# Altium integrated library Linear Technology Power Management Switching Regulator LT1074-LT8705.IntLib: 2252 symbols (part 67 of 148)
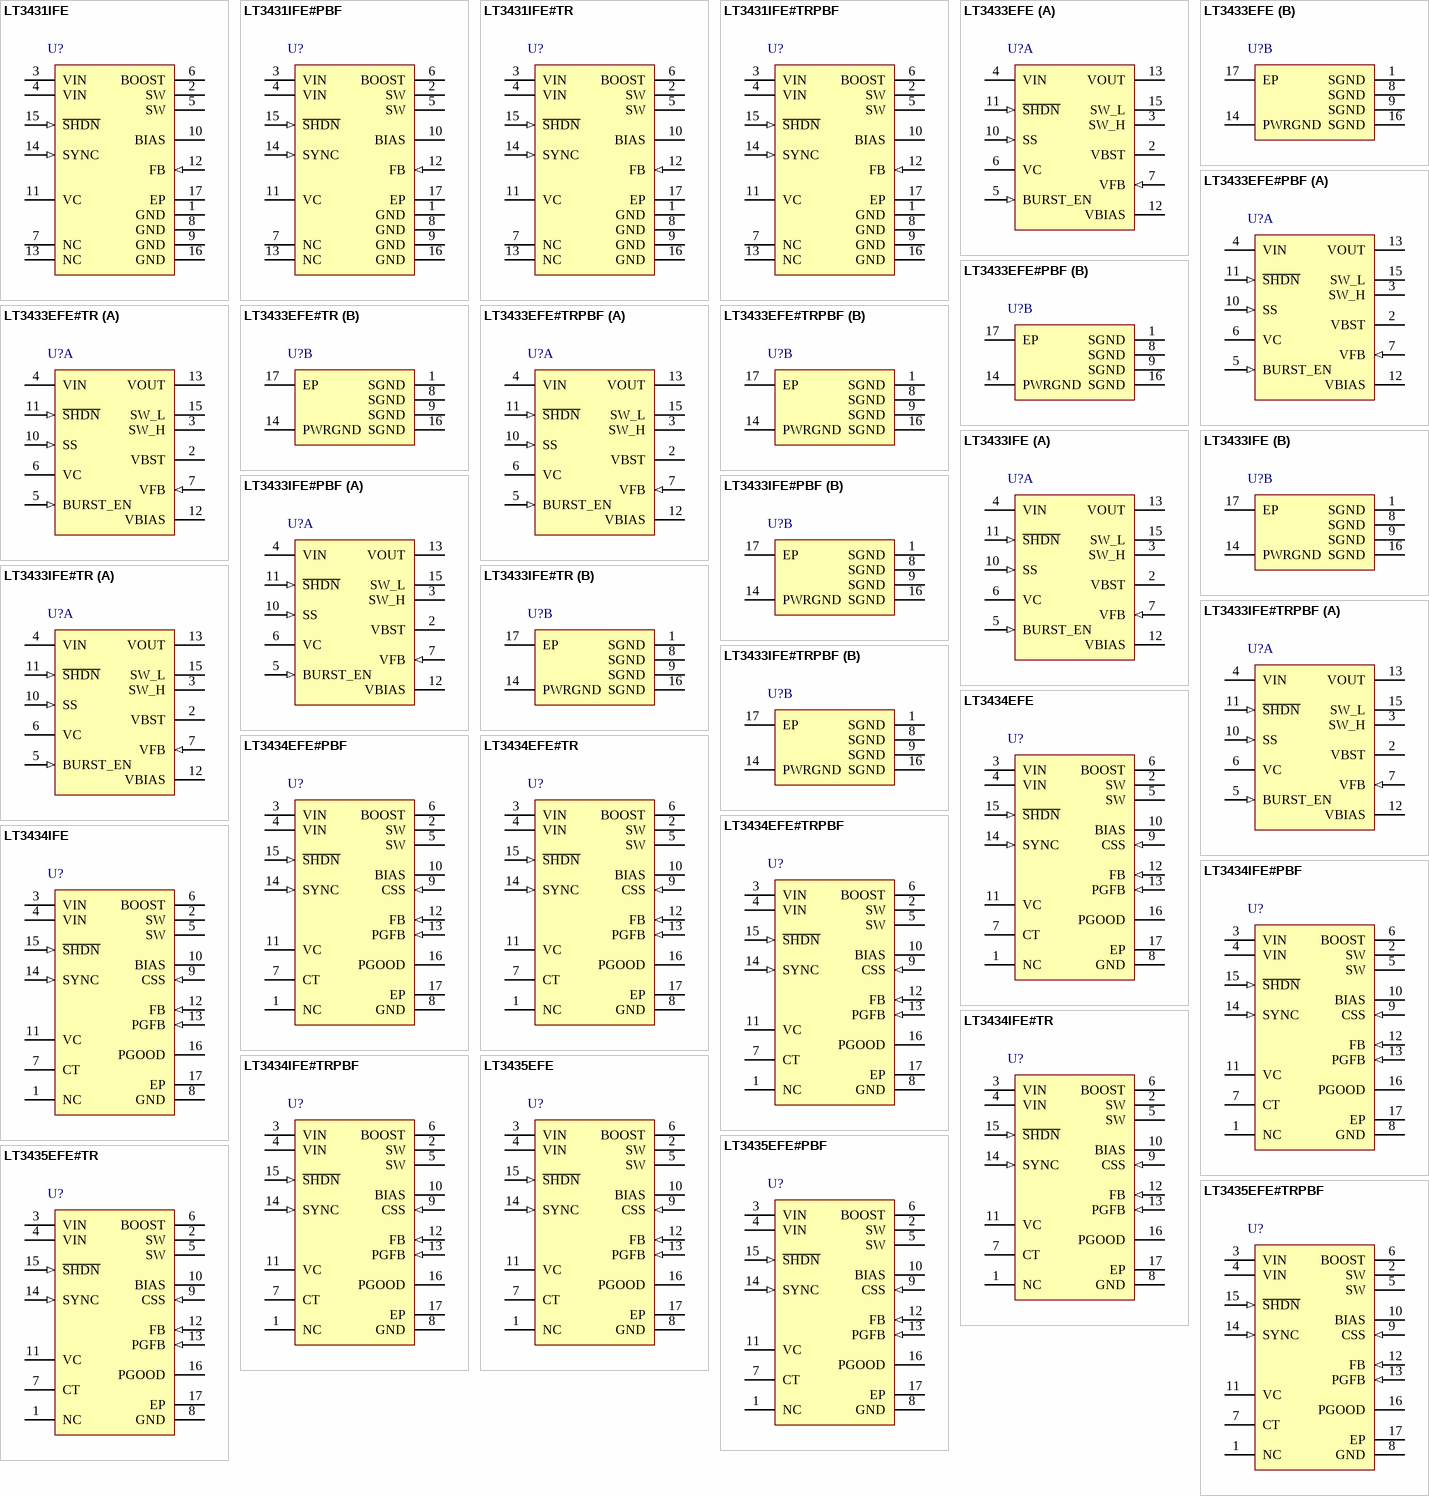
[diagram p137: symbols LT3431IFE to LT3435EFE#TRPBF]

## LT3431IFE#TRPBF
designator U?
High Voltage, 3 A, 500 kHz Step-Down Switching Regulator, 16-pin SOP (FE-16-EPV-BB), -40 to 125 degC, Pb-Free, Tape and Reel; Manufacturer: Linear Technology; PartNumber: LT3431IFE#TRPBF; Frequency Sync Range: 580kHz - 700kHz; Number of Outputs: 1; PackageVersion: Rev. J, 11/2012; PackageReference: FE-16; PackageDescription: 16-Pin Plastic TSSOP, Body 5 x 4.4 mm, Pitch 0.65 mm; Supplier 1: Digi-Key; Supplier Part Number 1: LT3431IFE#TRPBF-ND; Supplier 2: Newark; Supplier Part Number 2: 57M8108; Packing: Tape and Reel; RoHS: TRUE; Mounting Technology: Surface Mount; ComponentLink1Description: Manufacturer URL; ComponentLink1URL: http://www.linear.com/; ComponentLink2Description: Datasheet; ComponentLink2URL: http://cds.linear.com/docs/en/datasheet/3431fs.pdf; ComponentLink3Description: Package Specification; ComponentLink3URL: http://cds.linear.com/docs/en/packaging/05081663__J_FE16(BB).pdf
footprint LT-FE-16-EPV-BB_N (SOP, 16-Leads, Body 5.1x4.5mm, Pitch 0.65mm, Thermal Pad 3.58x2.94mm, IPC Medium Density)
footprint LT-FE-16-EPV-BB_L (SOP, 16-Leads, Body 5.1x4.5mm, Pitch 0.65mm, Thermal Pad 3.58x2.94mm, IPC High Density)
footprint LT-FE-16-EPV-BB_M (SOP, 16-Leads, Body 5.1x4.5mm, Pitch 0.65mm, Thermal Pad 3.58x2.94mm, IPC Low Density)
pins: 1 GND (power) "The GND pin connections act as the reference for the regulated output, so load regulation will suffer if the “ground?end of the load is not at the same voltage as the GND pins of the IC. This condition will occur w(See Datasheet)", 2 SW (power) "The switch pin is the emitter of the on-chip power NPN switch. This pin is driven up to the input pin voltage during switch on time. Inductor current drives the switch pin voltage negative during switch off time. Negative (See Datasheet)", 3 VIN (power) "This is the collector of the on-chip power NPN switch. VIN powers the internal control circuitry when a voltage on the BIAS pin is not present. High dI/dt edges occur on this pin during switch turn on and off. Keep the path (See Datasheet)", 4 VIN (power) "This is the collector of the on-chip power NPN switch. VIN powers the internal control circuitry when a voltage on the BIAS pin is not present. High dI/dt edges occur on this pin during switch turn on and off. Keep the path (See Datasheet)", 5 SW (power) "The switch pin is the emitter of the on-chip power NPN switch. This pin is driven up to the input pin voltage during switch on time. Inductor current drives the switch pin voltage negative during switch off time. Negative (See Datasheet)", 6 BOOST "The BOOST pin is used to provide a drive voltage, higher than the input voltage, to the internal bipolar NPN power switch. Without this added voltage, the typical switch voltage loss would be about 1.5V. The additional BOOST (See Datasheet)", 7 NC "No Connection.", 8 GND (power) "The GND pin connections act as the reference for the regulated output, so load regulation will suffer if the “ground?end of the load is not at the same voltage as the GND pins of the IC. This condition will occur w(See Datasheet)", 9 GND (power) "The GND pin connections act as the reference for the regulated output, so load regulation will suffer if the “ground?end of the load is not at the same voltage as the GND pins of the IC. This condition will occur w(See Datasheet)", 10 BIAS (power) "The BIAS pin is used to improve efficiency when operating at higher input voltages and light load current. Connecting this pin to the regulated output voltage forces most of the internal circuitry to draw its operating (See Datasheet)", 11 VC "The VC pin is the output of the error amplifier and the input of the peak switch current comparator. It is normally used for frequency compensation, but can also serve as a current clamp or control loop override. VC sits at (See Datasheet)", 12 FB (in) "The feedback pin is used to set the output voltage using an external voltage divider that generates 1.22V at the pin for the desired output voltage. Three additional functions are performed by the FB pin. When the pin (See Datasheet)", 13 NC "No Connection.", 14 SYNC (in) "The SYNC pin is used to synchronize the internal oscillator to an external signal. It is directly logic compatible and can be driven with any signal between 10% and 90% duty cycle. The synchronizing range is 125kHz to 250kHz (See Datasheet)", 15 ~{SHDN} (in) "The S\H\D\N\ pin is used to turn off the regulator and to reduce input drain current to a few microamperes. This pin has two thresholds: one at 2.38V to disable switching and a second at 0.4V to force complete micropower (See Datasheet)", 16 GND (power) "The GND pin connections act as the reference for the regulated output, so load regulation will suffer if the “ground?end of the load is not at the same voltage as the GND pins of the IC. This condition will occur w(See Datasheet)", 17 EP (power) "The GND pin connections act as the reference for the regulated output, so load regulation will suffer if the “ground?end of the load is not at the same voltage as the GND pins of the IC. This condition will occur w(See Datasheet)"

## LT3433EFE
designator U?
High Voltage Step-Up/Step-Down DC/DC Converter, 16-pin SOP (FE-16-EPV-BA), -40 to 125 degC; Manufacturer: Linear Technology; PartNumber: LT3433EFE; Number of Outputs: 1; PackageVersion: Rev. J, 11/2012; PackageReference: FE-16; PackageDescription: 16-Pin Plastic TSSOP, Body 5 x 4.4 mm, Pitch 0.65 mm; Supplier 1: Digi-Key; Supplier Part Number 1: LT3433EFE-ND; RoHS: FALSE; Mounting Technology: Surface Mount; ComponentLink1Description: Manufacturer URL; ComponentLink1URL: http://www.linear.com/; ComponentLink2Description: Datasheet; ComponentLink2URL: http://cds.linear.com/docs/en/datasheet/3433f.pdf; ComponentLink3Description: Package Specification; ComponentLink3URL: http://cds.linear.com/docs/en/packaging/05081663__J_FE16(BB).pdf
footprint LT-FE-16-EPV-BB_N (SOP, 16-Leads, Body 5.1x4.5mm, Pitch 0.65mm, Thermal Pad 3.58x2.94mm, IPC Medium Density)
footprint LT-FE-16-EPV-BB_L (SOP, 16-Leads, Body 5.1x4.5mm, Pitch 0.65mm, Thermal Pad 3.58x2.94mm, IPC High Density)
footprint LT-FE-16-EPV-BB_M (SOP, 16-Leads, Body 5.1x4.5mm, Pitch 0.65mm, Thermal Pad 3.58x2.94mm, IPC Low Density)
part A pins: 2 VBST (power) "Boosted Switch Supply. This "boosted" supply rail is referenced to the SW_H pin. Supply voltage is maintained by a bootstrap capacitor tied from the VBST pin to the SW_H pin. A 1uF capacitor is generally adequate (See Datasheet)", 3 SW_H "Boosted Switch Output. This is the current return for the boosted switch and corresponds to the emitter of the switch transistor. The boosted switch shorts the SW_H pin to the VIN supply when enabled. The drive circuitry for (See Datasheet)", 4 VIN (power) "Input Power Supply. This pin supplies power to the boosted switch and corresponds to the collector of the switch transistor.This pin also supplies power to most of the IC’s internal circuitry if the VBIAS pin is not drive(See Datasheet)", 5 BURST_EN (in) "Burst Mode Enable/Disable. When this pin is below 0.3V, Burst Mode operation is enabled. Pin input bias current < 1uA when Burst Mode operation is enabled. If Burst Mode operation is not desired, pulling this pin above 2V (See Datasheet)", 6 VC "Error Amplifier Output. The voltage on the VC pin corresponds to the maximum switch current per oscillator cycle. The error amplifier is typically configured as an integrator circuit by connecting an RC network from this pin (See Datasheet)", 7 VFB (in) "Error Amplifier Inverting Input. The noninverting input of the error amplifier is connected to an internal 1.231V reference. The VFB pin is connected to a resistor divider from the converter output. Values for the resistor (See Datasheet)", 10 SS (in) "Soft Start. Connect a capacitor (CSS) from this pin to ground. The output voltage of the LT3433 error amplifier corresponds to the peak current sense amplifier output detected before resetting the switch output(s). The (See Datasheet)", 11 ~{SHDN} (in) "Shutdown. If the S\H\D\N\ pin is externally pulled below 0.5V, low current shutdown mode is initiated. During shutdown mode, all internal functions are disabled, and ICC is reduced to 10uA. This pin is intended to receive a (See Datasheet)", 12 VBIAS (power) "Internal Local Supply. Much of the LT3433 circuitry is powered from this supply, which is internally regulated to 2.5V through an on-board linear regulator. Current drive for this regulator is sourced from the VIN pin. The (See Datasheet)", 13 VOUT (power) "Converter Output Pin. This pin voltage is compared with the voltage on VIN internally to control operation in single or 2-switch mode. When the ratios of the two voltages are such that a >75% duty cycle is required for (See Datasheet)", 15 SW_L "Ground Referenced Switch Output. This pin is the collector of the low side switch transistor. The low side switch shorts the SW_L pin to PWRGND when enabled. The series impedance of the ground-referenced switch is 0.6ohm."
part B pins: 1 SGND (power) "Low Noise Ground Reference.", 8 SGND (power) "Low Noise Ground Reference.", 9 SGND (power) "Low Noise Ground Reference.", 14 PWRGND (power) "High Current Ground Reference. This is the current return for the low side switch and corresponds to the emitter of the low side switch transistor.", 16 SGND (power) "Low Noise Ground Reference.", 17 EP (power) "Exposed Pad must be soldered to PCB ground for optimal thermal performance."

## LT3433EFE#PBF
designator U?
High Voltage Step-Up/Step-Down DC/DC Converter, 16-pin SOP (FE-16-EPV-BB), -40 to 125 degC, Pb-Free; Manufacturer: Linear Technology; PartNumber: LT3433EFE#PBF; Number of Outputs: 1; PackageVersion: Rev. J, 11/2012; PackageReference: FE-16; PackageDescription: 16-Pin Plastic TSSOP, Body 5 x 4.4 mm, Pitch 0.65 mm; Supplier 1: Digi-Key; Supplier Part Number 1: LT3433EFE#PBF-ND; Supplier 2: Farnell; Supplier Part Number 2: 1273809; Supplier 3: Newark; Supplier Part Number 3: 57M8110; RoHS: TRUE; Mounting Technology: Surface Mount; ComponentLink1Description: Manufacturer URL; ComponentLink1URL: http://www.linear.com/; ComponentLink2Description: Datasheet; ComponentLink2URL: http://cds.linear.com/docs/en/datasheet/3433f.pdf; ComponentLink3Description: Package Specification; ComponentLink3URL: http://cds.linear.com/docs/en/packaging/05081663__J_FE16(BB).pdf
footprint LT-FE-16-EPV-BB_N (SOP, 16-Leads, Body 5.1x4.5mm, Pitch 0.65mm, Thermal Pad 3.58x2.94mm, IPC Medium Density)
footprint LT-FE-16-EPV-BB_L (SOP, 16-Leads, Body 5.1x4.5mm, Pitch 0.65mm, Thermal Pad 3.58x2.94mm, IPC High Density)
footprint LT-FE-16-EPV-BB_M (SOP, 16-Leads, Body 5.1x4.5mm, Pitch 0.65mm, Thermal Pad 3.58x2.94mm, IPC Low Density)
part A pins: 2 VBST (power) "Boosted Switch Supply. This "boosted" supply rail is referenced to the SW_H pin. Supply voltage is maintained by a bootstrap capacitor tied from the VBST pin to the SW_H pin. A 1uF capacitor is generally adequate (See Datasheet)", 3 SW_H "Boosted Switch Output. This is the current return for the boosted switch and corresponds to the emitter of the switch transistor. The boosted switch shorts the SW_H pin to the VIN supply when enabled. The drive circuitry for (See Datasheet)", 4 VIN (power) "Input Power Supply. This pin supplies power to the boosted switch and corresponds to the collector of the switch transistor.This pin also supplies power to most of the IC’s internal circuitry if the VBIAS pin is not drive(See Datasheet)", 5 BURST_EN (in) "Burst Mode Enable/Disable. When this pin is below 0.3V, Burst Mode operation is enabled. Pin input bias current < 1uA when Burst Mode operation is enabled. If Burst Mode operation is not desired, pulling this pin above 2V (See Datasheet)", 6 VC "Error Amplifier Output. The voltage on the VC pin corresponds to the maximum switch current per oscillator cycle. The error amplifier is typically configured as an integrator circuit by connecting an RC network from this pin (See Datasheet)", 7 VFB (in) "Error Amplifier Inverting Input. The noninverting input of the error amplifier is connected to an internal 1.231V reference. The VFB pin is connected to a resistor divider from the converter output. Values for the resistor (See Datasheet)", 10 SS (in) "Soft Start. Connect a capacitor (CSS) from this pin to ground. The output voltage of the LT3433 error amplifier corresponds to the peak current sense amplifier output detected before resetting the switch output(s). The (See Datasheet)", 11 ~{SHDN} (in) "Shutdown. If the S\H\D\N\ pin is externally pulled below 0.5V, low current shutdown mode is initiated. During shutdown mode, all internal functions are disabled, and ICC is reduced to 10uA. This pin is intended to receive a (See Datasheet)", 12 VBIAS (power) "Internal Local Supply. Much of the LT3433 circuitry is powered from this supply, which is internally regulated to 2.5V through an on-board linear regulator. Current drive for this regulator is sourced from the VIN pin. The (See Datasheet)", 13 VOUT (power) "Converter Output Pin. This pin voltage is compared with the voltage on VIN internally to control operation in single or 2-switch mode. When the ratios of the two voltages are such that a >75% duty cycle is required for (See Datasheet)", 15 SW_L "Ground Referenced Switch Output. This pin is the collector of the low side switch transistor. The low side switch shorts the SW_L pin to PWRGND when enabled. The series impedance of the ground-referenced switch is 0.6ohm."
part B pins: 1 SGND (power) "Low Noise Ground Reference.", 8 SGND (power) "Low Noise Ground Reference.", 9 SGND (power) "Low Noise Ground Reference.", 14 PWRGND (power) "High Current Ground Reference. This is the current return for the low side switch and corresponds to the emitter of the low side switch transistor.", 16 SGND (power) "Low Noise Ground Reference.", 17 EP (power) "Exposed Pad must be soldered to PCB ground for optimal thermal performance."

## LT3433EFE#TR
designator U?
High Voltage Step-Up/Step-Down DC/DC Converter, 16-pin SOP (FE-16-EPV-BB), -40 to 125 degC, Tape and Reel; Manufacturer: Linear Technology; PartNumber: LT3433EFE#TR; Number of Outputs: 1; PackageVersion: Rev. J, 11/2012; PackageReference: FE-16; PackageDescription: 16-Pin Plastic TSSOP, Body 5 x 4.4 mm, Pitch 0.65 mm; Supplier 1: Digi-Key; Supplier Part Number 1: LT3433EFE#TR-ND; Packing: Tape and Reel; RoHS: FALSE; Mounting Technology: Surface Mount; ComponentLink1Description: Manufacturer URL; ComponentLink1URL: http://www.linear.com/; ComponentLink2Description: Datasheet; ComponentLink2URL: http://cds.linear.com/docs/en/datasheet/3433f.pdf; ComponentLink3Description: Package Specification; ComponentLink3URL: http://cds.linear.com/docs/en/packaging/05081663__J_FE16(BB).pdf
footprint LT-FE-16-EPV-BB_N (SOP, 16-Leads, Body 5.1x4.5mm, Pitch 0.65mm, Thermal Pad 3.58x2.94mm, IPC Medium Density)
footprint LT-FE-16-EPV-BB_L (SOP, 16-Leads, Body 5.1x4.5mm, Pitch 0.65mm, Thermal Pad 3.58x2.94mm, IPC High Density)
footprint LT-FE-16-EPV-BB_M (SOP, 16-Leads, Body 5.1x4.5mm, Pitch 0.65mm, Thermal Pad 3.58x2.94mm, IPC Low Density)
part A pins: 2 VBST (power) "Boosted Switch Supply. This "boosted" supply rail is referenced to the SW_H pin. Supply voltage is maintained by a bootstrap capacitor tied from the VBST pin to the SW_H pin. A 1uF capacitor is generally adequate (See Datasheet)", 3 SW_H "Boosted Switch Output. This is the current return for the boosted switch and corresponds to the emitter of the switch transistor. The boosted switch shorts the SW_H pin to the VIN supply when enabled. The drive circuitry for (See Datasheet)", 4 VIN (power) "Input Power Supply. This pin supplies power to the boosted switch and corresponds to the collector of the switch transistor.This pin also supplies power to most of the IC’s internal circuitry if the VBIAS pin is not drive(See Datasheet)", 5 BURST_EN (in) "Burst Mode Enable/Disable. When this pin is below 0.3V, Burst Mode operation is enabled. Pin input bias current < 1uA when Burst Mode operation is enabled. If Burst Mode operation is not desired, pulling this pin above 2V (See Datasheet)", 6 VC "Error Amplifier Output. The voltage on the VC pin corresponds to the maximum switch current per oscillator cycle. The error amplifier is typically configured as an integrator circuit by connecting an RC network from this pin (See Datasheet)", 7 VFB (in) "Error Amplifier Inverting Input. The noninverting input of the error amplifier is connected to an internal 1.231V reference. The VFB pin is connected to a resistor divider from the converter output. Values for the resistor (See Datasheet)", 10 SS (in) "Soft Start. Connect a capacitor (CSS) from this pin to ground. The output voltage of the LT3433 error amplifier corresponds to the peak current sense amplifier output detected before resetting the switch output(s). The (See Datasheet)", 11 ~{SHDN} (in) "Shutdown. If the S\H\D\N\ pin is externally pulled below 0.5V, low current shutdown mode is initiated. During shutdown mode, all internal functions are disabled, and ICC is reduced to 10uA. This pin is intended to receive a (See Datasheet)", 12 VBIAS (power) "Internal Local Supply. Much of the LT3433 circuitry is powered from this supply, which is internally regulated to 2.5V through an on-board linear regulator. Current drive for this regulator is sourced from the VIN pin. The (See Datasheet)", 13 VOUT (power) "Converter Output Pin. This pin voltage is compared with the voltage on VIN internally to control operation in single or 2-switch mode. When the ratios of the two voltages are such that a >75% duty cycle is required for (See Datasheet)", 15 SW_L "Ground Referenced Switch Output. This pin is the collector of the low side switch transistor. The low side switch shorts the SW_L pin to PWRGND when enabled. The series impedance of the ground-referenced switch is 0.6ohm."
part B pins: 1 SGND (power) "Low Noise Ground Reference.", 8 SGND (power) "Low Noise Ground Reference.", 9 SGND (power) "Low Noise Ground Reference.", 14 PWRGND (power) "High Current Ground Reference. This is the current return for the low side switch and corresponds to the emitter of the low side switch transistor.", 16 SGND (power) "Low Noise Ground Reference.", 17 EP (power) "Exposed Pad must be soldered to PCB ground for optimal thermal performance."

## LT3433EFE#TRPBF
designator U?
High Voltage Step-Up/Step-Down DC/DC Converter, 16-pin SOP (FE-16-EPV-BB), -40 to 125 degC, Pb-Free, Tape and Reel; Manufacturer: Linear Technology; PartNumber: LT3433EFE#TRPBF; Number of Outputs: 1; PackageVersion: Rev. J, 11/2012; PackageReference: FE-16; PackageDescription: 16-Pin Plastic TSSOP, Body 5 x 4.4 mm, Pitch 0.65 mm; Supplier 1: Digi-Key; Supplier Part Number 1: LT3433EFE#TRPBF-ND; Packing: Tape and Reel; RoHS: TRUE; Mounting Technology: Surface Mount; ComponentLink1Description: Manufacturer URL; ComponentLink1URL: http://www.linear.com/; ComponentLink2Description: Datasheet; ComponentLink2URL: http://cds.linear.com/docs/en/datasheet/3433f.pdf; ComponentLink3Description: Package Specification; ComponentLink3URL: http://cds.linear.com/docs/en/packaging/05081663__J_FE16(BB).pdf
footprint LT-FE-16-EPV-BB_N (SOP, 16-Leads, Body 5.1x4.5mm, Pitch 0.65mm, Thermal Pad 3.58x2.94mm, IPC Medium Density)
footprint LT-FE-16-EPV-BB_L (SOP, 16-Leads, Body 5.1x4.5mm, Pitch 0.65mm, Thermal Pad 3.58x2.94mm, IPC High Density)
footprint LT-FE-16-EPV-BB_M (SOP, 16-Leads, Body 5.1x4.5mm, Pitch 0.65mm, Thermal Pad 3.58x2.94mm, IPC Low Density)
part A pins: 2 VBST (power) "Boosted Switch Supply. This "boosted" supply rail is referenced to the SW_H pin. Supply voltage is maintained by a bootstrap capacitor tied from the VBST pin to the SW_H pin. A 1uF capacitor is generally adequate (See Datasheet)", 3 SW_H "Boosted Switch Output. This is the current return for the boosted switch and corresponds to the emitter of the switch transistor. The boosted switch shorts the SW_H pin to the VIN supply when enabled. The drive circuitry for (See Datasheet)", 4 VIN (power) "Input Power Supply. This pin supplies power to the boosted switch and corresponds to the collector of the switch transistor.This pin also supplies power to most of the IC’s internal circuitry if the VBIAS pin is not drive(See Datasheet)", 5 BURST_EN (in) "Burst Mode Enable/Disable. When this pin is below 0.3V, Burst Mode operation is enabled. Pin input bias current < 1uA when Burst Mode operation is enabled. If Burst Mode operation is not desired, pulling this pin above 2V (See Datasheet)", 6 VC "Error Amplifier Output. The voltage on the VC pin corresponds to the maximum switch current per oscillator cycle. The error amplifier is typically configured as an integrator circuit by connecting an RC network from this pin (See Datasheet)", 7 VFB (in) "Error Amplifier Inverting Input. The noninverting input of the error amplifier is connected to an internal 1.231V reference. The VFB pin is connected to a resistor divider from the converter output. Values for the resistor (See Datasheet)", 10 SS (in) "Soft Start. Connect a capacitor (CSS) from this pin to ground. The output voltage of the LT3433 error amplifier corresponds to the peak current sense amplifier output detected before resetting the switch output(s). The (See Datasheet)", 11 ~{SHDN} (in) "Shutdown. If the S\H\D\N\ pin is externally pulled below 0.5V, low current shutdown mode is initiated. During shutdown mode, all internal functions are disabled, and ICC is reduced to 10uA. This pin is intended to receive a (See Datasheet)", 12 VBIAS (power) "Internal Local Supply. Much of the LT3433 circuitry is powered from this supply, which is internally regulated to 2.5V through an on-board linear regulator. Current drive for this regulator is sourced from the VIN pin. The (See Datasheet)", 13 VOUT (power) "Converter Output Pin. This pin voltage is compared with the voltage on VIN internally to control operation in single or 2-switch mode. When the ratios of the two voltages are such that a >75% duty cycle is required for (See Datasheet)", 15 SW_L "Ground Referenced Switch Output. This pin is the collector of the low side switch transistor. The low side switch shorts the SW_L pin to PWRGND when enabled. The series impedance of the ground-referenced switch is 0.6ohm."
part B pins: 1 SGND (power) "Low Noise Ground Reference.", 8 SGND (power) "Low Noise Ground Reference.", 9 SGND (power) "Low Noise Ground Reference.", 14 PWRGND (power) "High Current Ground Reference. This is the current return for the low side switch and corresponds to the emitter of the low side switch transistor.", 16 SGND (power) "Low Noise Ground Reference.", 17 EP (power) "Exposed Pad must be soldered to PCB ground for optimal thermal performance."

## LT3433IFE
designator U?
High Voltage Step-Up/Step-Down DC/DC Converter, 16-pin SOP (FE-16-EPV-BB), -40 to 125 degC; Manufacturer: Linear Technology; PartNumber: LT3433IFE; Number of Outputs: 1; PackageVersion: Rev. J, 11/2012; PackageReference: FE-16; PackageDescription: 16-Pin Plastic TSSOP, Body 5 x 4.4 mm, Pitch 0.65 mm; Supplier 1: Digi-Key; Supplier Part Number 1: LT3433IFE-ND; RoHS: FALSE; Mounting Technology: Surface Mount; ComponentLink1Description: Manufacturer URL; ComponentLink1URL: http://www.linear.com/; ComponentLink2Description: Datasheet; ComponentLink2URL: http://cds.linear.com/docs/en/datasheet/3433f.pdf; ComponentLink3Description: Package Specification; ComponentLink3URL: http://cds.linear.com/docs/en/packaging/05081663__J_FE16(BB).pdf
footprint LT-FE-16-EPV-BB_N (SOP, 16-Leads, Body 5.1x4.5mm, Pitch 0.65mm, Thermal Pad 3.58x2.94mm, IPC Medium Density)
footprint LT-FE-16-EPV-BB_L (SOP, 16-Leads, Body 5.1x4.5mm, Pitch 0.65mm, Thermal Pad 3.58x2.94mm, IPC High Density)
footprint LT-FE-16-EPV-BB_M (SOP, 16-Leads, Body 5.1x4.5mm, Pitch 0.65mm, Thermal Pad 3.58x2.94mm, IPC Low Density)
part A pins: 2 VBST (power) "Boosted Switch Supply. This "boosted" supply rail is referenced to the SW_H pin. Supply voltage is maintained by a bootstrap capacitor tied from the VBST pin to the SW_H pin. A 1uF capacitor is generally adequate (See Datasheet)", 3 SW_H "Boosted Switch Output. This is the current return for the boosted switch and corresponds to the emitter of the switch transistor. The boosted switch shorts the SW_H pin to the VIN supply when enabled. The drive circuitry for (See Datasheet)", 4 VIN (power) "Input Power Supply. This pin supplies power to the boosted switch and corresponds to the collector of the switch transistor.This pin also supplies power to most of the IC’s internal circuitry if the VBIAS pin is not drive(See Datasheet)", 5 BURST_EN (in) "Burst Mode Enable/Disable. When this pin is below 0.3V, Burst Mode operation is enabled. Pin input bias current < 1uA when Burst Mode operation is enabled. If Burst Mode operation is not desired, pulling this pin above 2V (See Datasheet)", 6 VC "Error Amplifier Output. The voltage on the VC pin corresponds to the maximum switch current per oscillator cycle. The error amplifier is typically configured as an integrator circuit by connecting an RC network from this pin (See Datasheet)", 7 VFB (in) "Error Amplifier Inverting Input. The noninverting input of the error amplifier is connected to an internal 1.231V reference. The VFB pin is connected to a resistor divider from the converter output. Values for the resistor (See Datasheet)", 10 SS (in) "Soft Start. Connect a capacitor (CSS) from this pin to ground. The output voltage of the LT3433 error amplifier corresponds to the peak current sense amplifier output detected before resetting the switch output(s). The (See Datasheet)", 11 ~{SHDN} (in) "Shutdown. If the S\H\D\N\ pin is externally pulled below 0.5V, low current shutdown mode is initiated. During shutdown mode, all internal functions are disabled, and ICC is reduced to 10uA. This pin is intended to receive a (See Datasheet)", 12 VBIAS (power) "Internal Local Supply. Much of the LT3433 circuitry is powered from this supply, which is internally regulated to 2.5V through an on-board linear regulator. Current drive for this regulator is sourced from the VIN pin. The (See Datasheet)", 13 VOUT (power) "Converter Output Pin. This pin voltage is compared with the voltage on VIN internally to control operation in single or 2-switch mode. When the ratios of the two voltages are such that a >75% duty cycle is required for (See Datasheet)", 15 SW_L "Ground Referenced Switch Output. This pin is the collector of the low side switch transistor. The low side switch shorts the SW_L pin to PWRGND when enabled. The series impedance of the ground-referenced switch is 0.6ohm."
part B pins: 1 SGND (power) "Low Noise Ground Reference.", 8 SGND (power) "Low Noise Ground Reference.", 9 SGND (power) "Low Noise Ground Reference.", 14 PWRGND (power) "High Current Ground Reference. This is the current return for the low side switch and corresponds to the emitter of the low side switch transistor.", 16 SGND (power) "Low Noise Ground Reference.", 17 EP (power) "Exposed Pad must be soldered to PCB ground for optimal thermal performance."

## LT3433IFE#PBF
designator U?
High Voltage Step-Up/Step-Down DC/DC Converter, 16-pin SOP (FE-16-EPV-BB), -40 to 125 degC, Pb-Free; Manufacturer: Linear Technology; PartNumber: LT3433IFE#PBF; Number of Outputs: 1; PackageVersion: Rev. J, 11/2012; PackageReference: FE-16; PackageDescription: 16-Pin Plastic TSSOP, Body 5 x 4.4 mm, Pitch 0.65 mm; Supplier 1: Digi-Key; Supplier Part Number 1: LT3433IFE#PBF-ND; Supplier 2: Farnell; Supplier Part Number 2: 1627596; Supplier 3: Newark; Supplier Part Number 3: 57M8114; RoHS: TRUE; Mounting Technology: Surface Mount; ComponentLink1Description: Manufacturer URL; ComponentLink1URL: http://www.linear.com/; ComponentLink2Description: Datasheet; ComponentLink2URL: http://cds.linear.com/docs/en/datasheet/3433f.pdf; ComponentLink3Description: Package Specification; ComponentLink3URL: http://cds.linear.com/docs/en/packaging/05081663__J_FE16(BB).pdf
footprint LT-FE-16-EPV-BB_N (SOP, 16-Leads, Body 5.1x4.5mm, Pitch 0.65mm, Thermal Pad 3.58x2.94mm, IPC Medium Density)
footprint LT-FE-16-EPV-BB_L (SOP, 16-Leads, Body 5.1x4.5mm, Pitch 0.65mm, Thermal Pad 3.58x2.94mm, IPC High Density)
footprint LT-FE-16-EPV-BB_M (SOP, 16-Leads, Body 5.1x4.5mm, Pitch 0.65mm, Thermal Pad 3.58x2.94mm, IPC Low Density)
part A pins: 2 VBST (power) "Boosted Switch Supply. This "boosted" supply rail is referenced to the SW_H pin. Supply voltage is maintained by a bootstrap capacitor tied from the VBST pin to the SW_H pin. A 1uF capacitor is generally adequate (See Datasheet)", 3 SW_H "Boosted Switch Output. This is the current return for the boosted switch and corresponds to the emitter of the switch transistor. The boosted switch shorts the SW_H pin to the VIN supply when enabled. The drive circuitry for (See Datasheet)", 4 VIN (power) "Input Power Supply. This pin supplies power to the boosted switch and corresponds to the collector of the switch transistor.This pin also supplies power to most of the IC’s internal circuitry if the VBIAS pin is not drive(See Datasheet)", 5 BURST_EN (in) "Burst Mode Enable/Disable. When this pin is below 0.3V, Burst Mode operation is enabled. Pin input bias current < 1uA when Burst Mode operation is enabled. If Burst Mode operation is not desired, pulling this pin above 2V (See Datasheet)", 6 VC "Error Amplifier Output. The voltage on the VC pin corresponds to the maximum switch current per oscillator cycle. The error amplifier is typically configured as an integrator circuit by connecting an RC network from this pin (See Datasheet)", 7 VFB (in) "Error Amplifier Inverting Input. The noninverting input of the error amplifier is connected to an internal 1.231V reference. The VFB pin is connected to a resistor divider from the converter output. Values for the resistor (See Datasheet)", 10 SS (in) "Soft Start. Connect a capacitor (CSS) from this pin to ground. The output voltage of the LT3433 error amplifier corresponds to the peak current sense amplifier output detected before resetting the switch output(s). The (See Datasheet)", 11 ~{SHDN} (in) "Shutdown. If the S\H\D\N\ pin is externally pulled below 0.5V, low current shutdown mode is initiated. During shutdown mode, all internal functions are disabled, and ICC is reduced to 10uA. This pin is intended to receive a (See Datasheet)", 12 VBIAS (power) "Internal Local Supply. Much of the LT3433 circuitry is powered from this supply, which is internally regulated to 2.5V through an on-board linear regulator. Current drive for this regulator is sourced from the VIN pin. The (See Datasheet)", 13 VOUT (power) "Converter Output Pin. This pin voltage is compared with the voltage on VIN internally to control operation in single or 2-switch mode. When the ratios of the two voltages are such that a >75% duty cycle is required for (See Datasheet)", 15 SW_L "Ground Referenced Switch Output. This pin is the collector of the low side switch transistor. The low side switch shorts the SW_L pin to PWRGND when enabled. The series impedance of the ground-referenced switch is 0.6ohm."
part B pins: 1 SGND (power) "Low Noise Ground Reference.", 8 SGND (power) "Low Noise Ground Reference.", 9 SGND (power) "Low Noise Ground Reference.", 14 PWRGND (power) "High Current Ground Reference. This is the current return for the low side switch and corresponds to the emitter of the low side switch transistor.", 16 SGND (power) "Low Noise Ground Reference.", 17 EP (power) "Exposed Pad must be soldered to PCB ground for optimal thermal performance."

## LT3433IFE#TR
designator U?
High Voltage Step-Up/Step-Down DC/DC Converter, 16-pin SOP (FE-16-EPV-BB), -40 to 125 degC, Tape and Reel; Manufacturer: Linear Technology; PartNumber: LT3433IFE#TR; Number of Outputs: 1; PackageVersion: Rev. J, 11/2012; PackageReference: FE-16; PackageDescription: 16-Pin Plastic TSSOP, Body 5 x 4.4 mm, Pitch 0.65 mm; Supplier 1: Digi-Key; Supplier Part Number 1: LT3433IFE#TR-ND; Packing: Tape and Reel; RoHS: FALSE; Mounting Technology: Surface Mount; ComponentLink1Description: Manufacturer URL; ComponentLink1URL: http://www.linear.com/; ComponentLink2Description: Datasheet; ComponentLink2URL: http://cds.linear.com/docs/en/datasheet/3433f.pdf; ComponentLink3Description: Package Specification; ComponentLink3URL: http://cds.linear.com/docs/en/packaging/05081663__J_FE16(BB).pdf
footprint LT-FE-16-EPV-BB_N (SOP, 16-Leads, Body 5.1x4.5mm, Pitch 0.65mm, Thermal Pad 3.58x2.94mm, IPC Medium Density)
footprint LT-FE-16-EPV-BB_L (SOP, 16-Leads, Body 5.1x4.5mm, Pitch 0.65mm, Thermal Pad 3.58x2.94mm, IPC High Density)
footprint LT-FE-16-EPV-BB_M (SOP, 16-Leads, Body 5.1x4.5mm, Pitch 0.65mm, Thermal Pad 3.58x2.94mm, IPC Low Density)
part A pins: 2 VBST (power) "Boosted Switch Supply. This "boosted" supply rail is referenced to the SW_H pin. Supply voltage is maintained by a bootstrap capacitor tied from the VBST pin to the SW_H pin. A 1uF capacitor is generally adequate (See Datasheet)", 3 SW_H "Boosted Switch Output. This is the current return for the boosted switch and corresponds to the emitter of the switch transistor. The boosted switch shorts the SW_H pin to the VIN supply when enabled. The drive circuitry for (See Datasheet)", 4 VIN (power) "Input Power Supply. This pin supplies power to the boosted switch and corresponds to the collector of the switch transistor.This pin also supplies power to most of the IC’s internal circuitry if the VBIAS pin is not drive(See Datasheet)", 5 BURST_EN (in) "Burst Mode Enable/Disable. When this pin is below 0.3V, Burst Mode operation is enabled. Pin input bias current < 1uA when Burst Mode operation is enabled. If Burst Mode operation is not desired, pulling this pin above 2V (See Datasheet)", 6 VC "Error Amplifier Output. The voltage on the VC pin corresponds to the maximum switch current per oscillator cycle. The error amplifier is typically configured as an integrator circuit by connecting an RC network from this pin (See Datasheet)", 7 VFB (in) "Error Amplifier Inverting Input. The noninverting input of the error amplifier is connected to an internal 1.231V reference. The VFB pin is connected to a resistor divider from the converter output. Values for the resistor (See Datasheet)", 10 SS (in) "Soft Start. Connect a capacitor (CSS) from this pin to ground. The output voltage of the LT3433 error amplifier corresponds to the peak current sense amplifier output detected before resetting the switch output(s). The (See Datasheet)", 11 ~{SHDN} (in) "Shutdown. If the S\H\D\N\ pin is externally pulled below 0.5V, low current shutdown mode is initiated. During shutdown mode, all internal functions are disabled, and ICC is reduced to 10uA. This pin is intended to receive a (See Datasheet)", 12 VBIAS (power) "Internal Local Supply. Much of the LT3433 circuitry is powered from this supply, which is internally regulated to 2.5V through an on-board linear regulator. Current drive for this regulator is sourced from the VIN pin. The (See Datasheet)", 13 VOUT (power) "Converter Output Pin. This pin voltage is compared with the voltage on VIN internally to control operation in single or 2-switch mode. When the ratios of the two voltages are such that a >75% duty cycle is required for (See Datasheet)", 15 SW_L "Ground Referenced Switch Output. This pin is the collector of the low side switch transistor. The low side switch shorts the SW_L pin to PWRGND when enabled. The series impedance of the ground-referenced switch is 0.6ohm."
part B pins: 1 SGND (power) "Low Noise Ground Reference.", 8 SGND (power) "Low Noise Ground Reference.", 9 SGND (power) "Low Noise Ground Reference.", 14 PWRGND (power) "High Current Ground Reference. This is the current return for the low side switch and corresponds to the emitter of the low side switch transistor.", 16 SGND (power) "Low Noise Ground Reference.", 17 EP (power) "Exposed Pad must be soldered to PCB ground for optimal thermal performance."

## LT3433IFE#TRPBF
designator U?
High Voltage Step-Up/Step-Down DC/DC Converter, 16-pin SOP (FE-16-EPV-BB), -40 to 125 degC, Pb-Free, Tape and Reel; Manufacturer: Linear Technology; PartNumber: LT3433IFE#TRPBF; Number of Outputs: 1; PackageVersion: Rev. J, 11/2012; PackageReference: FE-16; PackageDescription: 16-Pin Plastic TSSOP, Body 5 x 4.4 mm, Pitch 0.65 mm; Supplier 1: Digi-Key; Supplier Part Number 1: LT3433IFE#TRPBF-ND; Packing: Tape and Reel; RoHS: TRUE; Mounting Technology: Surface Mount; ComponentLink1Description: Manufacturer URL; ComponentLink1URL: http://www.linear.com/; ComponentLink2Description: Datasheet; ComponentLink2URL: http://cds.linear.com/docs/en/datasheet/3433f.pdf; ComponentLink3Description: Package Specification; ComponentLink3URL: http://cds.linear.com/docs/en/packaging/05081663__J_FE16(BB).pdf
footprint LT-FE-16-EPV-BB_N (SOP, 16-Leads, Body 5.1x4.5mm, Pitch 0.65mm, Thermal Pad 3.58x2.94mm, IPC Medium Density)
footprint LT-FE-16-EPV-BB_L (SOP, 16-Leads, Body 5.1x4.5mm, Pitch 0.65mm, Thermal Pad 3.58x2.94mm, IPC High Density)
footprint LT-FE-16-EPV-BB_M (SOP, 16-Leads, Body 5.1x4.5mm, Pitch 0.65mm, Thermal Pad 3.58x2.94mm, IPC Low Density)
part A pins: 2 VBST (power) "Boosted Switch Supply. This "boosted" supply rail is referenced to the SW_H pin. Supply voltage is maintained by a bootstrap capacitor tied from the VBST pin to the SW_H pin. A 1uF capacitor is generally adequate (See Datasheet)", 3 SW_H "Boosted Switch Output. This is the current return for the boosted switch and corresponds to the emitter of the switch transistor. The boosted switch shorts the SW_H pin to the VIN supply when enabled. The drive circuitry for (See Datasheet)", 4 VIN (power) "Input Power Supply. This pin supplies power to the boosted switch and corresponds to the collector of the switch transistor.This pin also supplies power to most of the IC’s internal circuitry if the VBIAS pin is not drive(See Datasheet)", 5 BURST_EN (in) "Burst Mode Enable/Disable. When this pin is below 0.3V, Burst Mode operation is enabled. Pin input bias current < 1uA when Burst Mode operation is enabled. If Burst Mode operation is not desired, pulling this pin above 2V (See Datasheet)", 6 VC "Error Amplifier Output. The voltage on the VC pin corresponds to the maximum switch current per oscillator cycle. The error amplifier is typically configured as an integrator circuit by connecting an RC network from this pin (See Datasheet)", 7 VFB (in) "Error Amplifier Inverting Input. The noninverting input of the error amplifier is connected to an internal 1.231V reference. The VFB pin is connected to a resistor divider from the converter output. Values for the resistor (See Datasheet)", 10 SS (in) "Soft Start. Connect a capacitor (CSS) from this pin to ground. The output voltage of the LT3433 error amplifier corresponds to the peak current sense amplifier output detected before resetting the switch output(s). The (See Datasheet)", 11 ~{SHDN} (in) "Shutdown. If the S\H\D\N\ pin is externally pulled below 0.5V, low current shutdown mode is initiated. During shutdown mode, all internal functions are disabled, and ICC is reduced to 10uA. This pin is intended to receive a (See Datasheet)", 12 VBIAS (power) "Internal Local Supply. Much of the LT3433 circuitry is powered from this supply, which is internally regulated to 2.5V through an on-board linear regulator. Current drive for this regulator is sourced from the VIN pin. The (See Datasheet)", 13 VOUT (power) "Converter Output Pin. This pin voltage is compared with the voltage on VIN internally to control operation in single or 2-switch mode. When the ratios of the two voltages are such that a >75% duty cycle is required for (See Datasheet)", 15 SW_L "Ground Referenced Switch Output. This pin is the collector of the low side switch transistor. The low side switch shorts the SW_L pin to PWRGND when enabled. The series impedance of the ground-referenced switch is 0.6ohm."
part B pins: 1 SGND (power) "Low Noise Ground Reference.", 8 SGND (power) "Low Noise Ground Reference.", 9 SGND (power) "Low Noise Ground Reference.", 14 PWRGND (power) "High Current Ground Reference. This is the current return for the low side switch and corresponds to the emitter of the low side switch transistor.", 16 SGND (power) "Low Noise Ground Reference.", 17 EP (power) "Exposed Pad must be soldered to PCB ground for optimal thermal performance."

## LT3434EFE
designator U?
High Voltage 3 A, 200 kHz Step-Down Switching Regulator with 100 uA Quiescent Current, 16-pin SOP (FE-16-EPV-BC), -40 to 125 degC; Manufacturer: Linear Technology; PartNumber: LT3434EFE; Frequency Sync Range: 230kHz - 500kHz; Number of Outputs: 1; DatasheetVersion: Rev. B; PackageVersion: Rev. J, 11/2012; PackageReference: FE-16; PackageDescription: 16-Pin Plastic TSSOP, Body 5 x 4.4 mm, Pitch 0.65 mm; Supplier 1: Digi-Key; Supplier Part Number 1: LT3434EFE-ND; RoHS: FALSE; Mounting Technology: Surface Mount; ComponentLink1Description: Manufacturer URL; ComponentLink1URL: http://www.linear.com/; ComponentLink2Description: Datasheet; ComponentLink2URL: http://cds.linear.com/docs/en/datasheet/3434fb.pdf; ComponentLink3Description: Package Specification; ComponentLink3URL: http://cds.linear.com/docs/en/packaging/05081663__J_FE16(BC).pdf
footprint LT-FE-16-EPV-BC_N (SOP, 16-Leads, Body 5.1x4.5mm, Pitch 0.65mm, Thermal Pad 3.58x2.94mm, IPC Medium Density)
footprint LT-FE-16-EPV-BC_L (SOP, 16-Leads, Body 5.1x4.5mm, Pitch 0.65mm, Thermal Pad 3.58x2.94mm, IPC High Density)
footprint LT-FE-16-EPV-BC_M (SOP, 16-Leads, Body 5.1x4.5mm, Pitch 0.65mm, Thermal Pad 3.58x2.94mm, IPC Low Density)
pins: 1 NC "No Connection.", 2 SW (power) "The SW pin is the emitter of the on-chip power NPN switch. This pin is driven up to the input pin voltage during switch on time. Inductor current drives the SW pin negative during switch off time. Negative voltage is clamped (See Datasheet)", 3 VIN (power) "This is the collector of the on-chip power NPN switch. VIN powers the internal control circuitry when a voltage on the BIAS pin is not present. High di/dt edges occur on this pin during switch turn on and off. Keep the path (See Datasheet)", 4 VIN (power) "This is the collector of the on-chip power NPN switch. VIN powers the internal control circuitry when a voltage on the BIAS pin is not present. High di/dt edges occur on this pin during switch turn on and off. Keep the path (See Datasheet)", 5 SW (power) "The SW pin is the emitter of the on-chip power NPN switch. This pin is driven up to the input pin voltage during switch on time. Inductor current drives the SW pin negative during switch off time. Negative voltage is clamped (See Datasheet)", 6 BOOST "The BOOST pin is used to provide a drive voltage, higher than the input voltage, to the internal bipolar NPN power switch. Without this added voltage, the typical switch voltage loss would be about 1.5V. The additional BOOST (See Datasheet)", 7 CT "A capacitor on the CT pin determines the amount of delay time between the PGFB pin exceeding its threshold (VPGFB) and the PG pin set to a high impedance state.When the PGFB pin rises above VPGFB, current is sourced from the (See Datasheet)", 8 GND (power) "The GND pin connection acts as the reference for the regulated output, so load regulation will suffer if the “ground?end of the load is not at the same voltage as the GND pin of the IC. This condition will occur w(See Datasheet)", 9 CSS (in) "A capacitor from the CSS pin to the regulated output voltage determines the output voltage ramp rate during start-up. When the current through the CSS capacitor exceeds the CSS threshold (ICSS), the voltage ramp of the (See Datasheet)", 10 BIAS (power) "The BIAS pin is used to improve efficiency when operating at higher input voltages and light load current. Connecting this pin to the regulated output voltage forces most of the internal circuitry to draw its operating (See Datasheet)", 11 VC, 12 FB (in) "The feedback pin is used to determine the output voltage using an external voltage divider from the output that generates 1.25V at the FB pin . When the FB pin drops below 0.9V, switching frequency is reduced, the SYNC (See Datasheet)", 13 PGFB (in) "The PGFB pin is the positive input to a comparator whose negative input is set at VPGFB. When PGFB is taken above VPGFB, current (ICSS) is sourced into the CT pin starting the PG delay period. When the voltage on the PGFB (See Datasheet)", 14 SYNC (in), 15 ~{SHDN} (in) "The S\H\D\N\ pin is used to turn off the regulator and to reduce input current to less than 1uA. The S\H\D\N\ pin requires a voltage above 1.3V with a typical source current of 5uA to take the IC out of the shutdown state.", 16 PGOOD (hiz) "The PG pin is functional only when the S\H\D\N\ pin is above its threshold, and is active low when the internal clamp on the CT pin is below its clamp level and high impedance when the clamp is active. The PG pin has a (See Datasheet)", 17 EP (power) "The GND pin connection acts as the reference for the regulated output, so load regulation will suffer if the “ground?end of the load is not at the same voltage as the GND pin of the IC. This condition will occur w(See Datasheet)"